# Altium schematic symbol library SCH - ARM CORTEX - STM STM32F042G(4-6)Ux.SchLib: 1 symbol
Pins are listed as number, name and electrical type; pins without a type are passive.

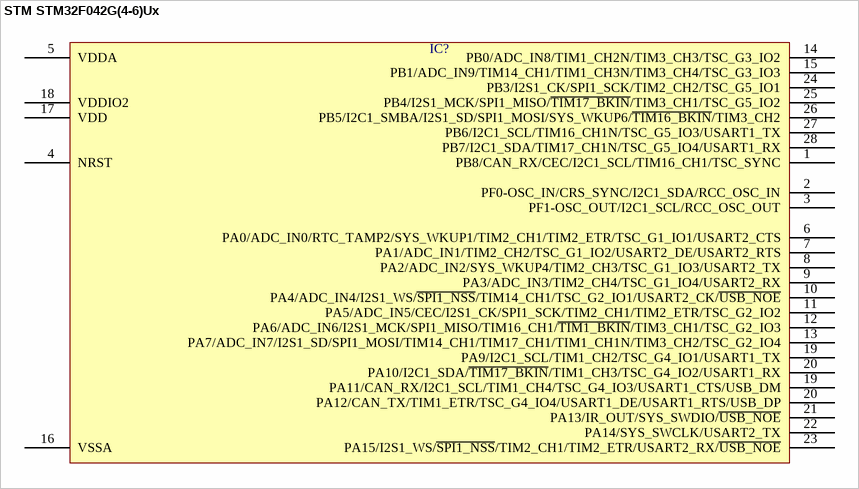
[diagram p0: symbol STM STM32F042G(4-6)Ux]

## STM STM32F042G(4-6)Ux
designator IC?  (value not drawn)
pins: 1 PB8/CAN_RX/CEC/I2C1_SCL/TIM16_CH1/TSC_SYNC, 2 PF0-OSC_IN/CRS_SYNC/I2C1_SDA/RCC_OSC_IN, 3 PF1-OSC_OUT/I2C1_SCL/RCC_OSC_OUT, 4 NRST, 5 VDDA, 6 PA0/ADC_IN0/RTC_TAMP2/SYS_WKUP1/TIM2_CH1/TIM2_ETR/TSC_G1_IO1/USART2_CTS, 7 PA1/ADC_IN1/TIM2_CH2/TSC_G1_IO2/USART2_DE/USART2_RTS, 8 PA2/ADC_IN2/SYS_WKUP4/TIM2_CH3/TSC_G1_IO3/USART2_TX, 9 PA3/ADC_IN3/TIM2_CH4/TSC_G1_IO4/USART2_RX, 10 PA4/ADC_IN4/I2S1_WS/~{SPI1_NSS}/TIM14_CH1/TSC_G2_IO1/USART2_CK/~{USB_NOE}, 11 PA5/ADC_IN5/CEC/I2S1_CK/SPI1_SCK/TIM2_CH1/TIM2_ETR/TSC_G2_IO2, 12 PA6/ADC_IN6/I2S1_MCK/SPI1_MISO/TIM16_CH1/~{TIM1_BKIN}/TIM3_CH1/TSC_G2_IO3, 13 PA7/ADC_IN7/I2S1_SD/SPI1_MOSI/TIM14_CH1/TIM17_CH1/TIM1_CH1N/TIM3_CH2/TSC_G2_IO4, 14 PB0/ADC_IN8/TIM1_CH2N/TIM3_CH3/TSC_G3_IO2, 15 PB1/ADC_IN9/TIM14_CH1/TIM1_CH3N/TIM3_CH4/TSC_G3_IO3, 16 VSSA, 17 VDD, 18 VDDIO2, 19 PA9/I2C1_SCL/TIM1_CH2/TSC_G4_IO1/USART1_TX, 19 PA11/CAN_RX/I2C1_SCL/TIM1_CH4/TSC_G4_IO3/USART1_CTS/USB_DM, 20 PA10/I2C1_SDA/~{TIM17_BKIN}/TIM1_CH3/TSC_G4_IO2/USART1_RX, 20 PA12/CAN_TX/TIM1_ETR/TSC_G4_IO4/USART1_DE/USART1_RTS/USB_DP, 21 PA13/IR_OUT/SYS_SWDIO/~{USB_NOE}, 22 PA14/SYS_SWCLK/USART2_TX, 23 PA15/I2S1_WS/~{SPI1_NSS}/TIM2_CH1/TIM2_ETR/USART2_RX/~{USB_NOE}, 24 PB3/I2S1_CK/SPI1_SCK/TIM2_CH2/TSC_G5_IO1, 25 PB4/I2S1_MCK/SPI1_MISO/~{TIM17_BKIN}/TIM3_CH1/TSC_G5_IO2, 26 PB5/I2C1_SMBA/I2S1_SD/SPI1_MOSI/SYS_WKUP6/~{TIM16_BKIN}/TIM3_CH2, 27 PB6/I2C1_SCL/TIM16_CH1N/TSC_G5_IO3/USART1_TX, 28 PB7/I2C1_SDA/TIM17_CH1N/TSC_G5_IO4/USART1_RX